# EAGLE library part ADG708BRUZ (library ADG708BRUZ)
ADG708BRUZ, Analogue Switch Single 8:1, 3, 5V, 16-Pin, TSSOP Source: Datasheet <http://www.analog.com/static/imported-files/data_sheets/ADG708_709.pdf>
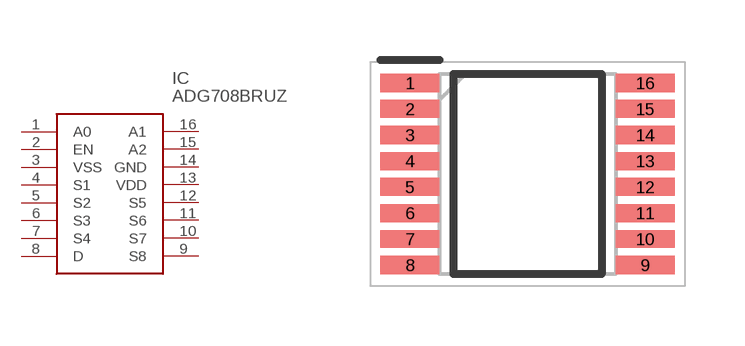
[diagram p0: symbol with the pads of SOP65P640X120-16N; footprint SOP65P640X120-16N]

Designator prefix IC

## ADG708BRUZ (Arrow_Part_Number: ADG708BRUZ; Arrow_Price-Stock: https://www.arrow.com/en/products/adg708bruz/analog-devices; Description: ADG708BRUZ, Analogue Switch Single 8:1, 3, 5V, 16-Pin, TSSOP; Height: 1.2mm; Manufacturer_Name: Analog Devices; Manufacturer_Part_Number: ADG708BRUZ; Mouser_Part_Number: 584-ADG708BRUZ; Mouser_Price-Stock: https://www.mouser.co.uk/ProductDetail/Analog-Devices/ADG708BRUZ?qs=BpaRKvA4VqE6s2wNpzXc6Q%3D%3D)  [SOP65P640X120-16N]
1  A0
2  EN
3  VSS  pwr
4  S1
5  S2
6  S3
7  S4
8  D
9  S8
10  S7
11  S6
12  S5
13  VDD  pwr
14  GND  pwr
15  A2
16  A1

## Footprint SOP65P640X120-16N (pad centres in mm)
RU-16 (TSSOP)
smd 1.475 x 0.45: 1 -2.938,2.275; 2 -2.938,1.625; 3 -2.938,0.975; 4 -2.938,0.325; 5 -2.938,-0.325; 6 -2.938,-0.975; 7 -2.938,-1.625; 8 -2.938,-2.275; 9 2.938,-2.275; 10 2.938,-1.625; 11 2.938,-0.975; 12 2.938,-0.325; 13 2.938,0.325; 14 2.938,0.975; 15 2.938,1.625; 16 2.938,2.275